# Altium schematic symbol library RAM.SchLib: 1 symbol
Pins are listed as number, name and electrical type; pins without a type are passive.

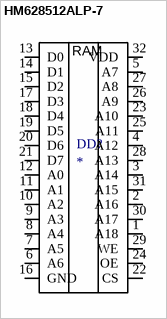
[diagram p0: symbol HM628512ALP-7]

## HM628512ALP-7
designator DD?
512Kx8 Static RAM
footprint DIP254P1524X482-32
pins: 1 A18, 2 A16, 3 A14, 4 A12, 5 A7, 6 A6, 7 A5, 8 A4, 9 A3, 10 A2, 11 A1, 12 A0, 13 D0, 14 D1, 15 D2, 16 GND, 17 D3, 18 D4, 19 D5, 20 D6, 21 D7, 22 CS, 23 A10, 24 OE, 25 A11, 26 A9, 27 A8, 28 A13, 29 WE, 30 A17, 31 A15, 32 VDD
text: RAM